# Altium integrated library HTSW-107-14-S-S.IntLib: 1 symbol
Pins are listed as number, name and electrical type; pins without a type are passive.

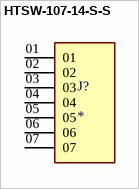
[diagram p0: symbol HTSW-107-14-S-S]

## HTSW-107-14-S-S
designator J?
<a href="https://pricing.snapeda.com/parts/HTSW-107-08-F-S-LL/Samtec%20Inc./view-part?ref=eda">Check availability</a> <a href="https://pricing.snapeda.com/parts/HTSW-107-08-F-S-LL/Samtec%20Inc./view-part?ref=eda">Check availability</a>; MP: HTSW-107-14-S-S; Price: None; Availability: Unavailable; Value: *; Package: None
footprint SAMTEC_HTSW-107-14-S-S
pins: 01, 02, 03, 04, 05, 06, 07